# Altium integrated library Altium_WRIS-KSKE (rev20a).IntLib: 17 symbols
Pins are listed as number, name and electrical type; pins without a type are passive.

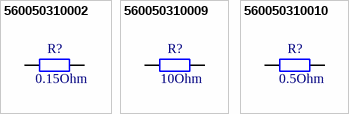
[diagram p0: symbols 560050310002 to 560050310010]

## 560050310002
designator R?, comment 0.15Ohm
WRIS-KSKE SMT Thick Film Resistor, size 0402, 0.15Ohm, 0.125W; Manufacturer: Wurth Elektronik; Manufacturer Part Number: 560050310002; Rated Current: 0.91A; Temperature Coefficient of Resistance: 300ppm/degC; Technical Reference: KE0402R150F108IAATH0000; Resistance Tolerance: +/-1%; ComponentLink1Description: Manufacturer; ComponentLink1URL: http://www.we-online.de; ComponentLink2Description: Datasheet; ComponentLink2URL: https://www.we-online.com/catalog/datasheet/560050310002.pdf; Published Date: May 2020; Rated Power: 0.125W; Resistance: 0.15Ohm; Height: 0.35mm; Operating Temperature: -55 to +155degC; Mounting Technology: SMT; Packaging: Tape and Reel; Size: 0402; Length: 1mm; Width: 0.5mm
footprint WRIS-KSKE_0402
pins: 1, 2

## 560050310009
designator R?, comment 10Ohm
WRIS-KSKE SMT Thick Film Resistor, size 0402, 10Ohm, 0.125W; Manufacturer: Wurth Elektronik; Manufacturer Part Number: 560050310009; Rated Current: 0.11A; Temperature Coefficient of Resistance: +/-100ppm/degC; Technical Reference: KE04020100F108KAATH0000; Resistance Tolerance: +/-1%; ComponentLink1Description: Manufacturer; ComponentLink1URL: http://www.we-online.de; ComponentLink2Description: Datasheet; ComponentLink2URL: https://www.we-online.com/catalog/datasheet/560050310009.pdf; Published Date: May 2020; Rated Power: 0.125W; Resistance: 10Ohm; Height: 0.35mm; Operating Temperature: -55 to +155degC; Mounting Technology: SMT; Packaging: Tape and Reel; Size: 0402; Length: 1mm; Width: 0.5mm
footprint WRIS-KSKE_0402
pins: 1, 2

## 560050310010
designator R?, comment 0.5Ohm
WRIS-KSKE SMT Thick Film Resistor, size 0402, 0.5Ohm, 0.125W; Manufacturer: Wurth Elektronik; Manufacturer Part Number: 560050310010; Rated Current: 0.5A; Temperature Coefficient of Resistance: 200ppm/degC; Technical Reference: KE0402R500F108HAATH0000; Resistance Tolerance: +/-1%; ComponentLink1Description: Manufacturer; ComponentLink1URL: http://www.we-online.de; ComponentLink2Description: Datasheet; ComponentLink2URL: https://www.we-online.com/catalog/datasheet/560050310010.pdf; Published Date: May 2020; Rated Power: 0.125W; Resistance: 0.5Ohm; Height: 0.35mm; Operating Temperature: -55 to +155degC; Mounting Technology: SMT; Packaging: Tape and Reel; Size: 0402; Length: 1mm; Width: 0.5mm
footprint WRIS-KSKE_0402
pins: 1, 2


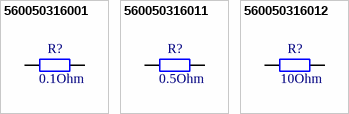
[diagram p1: symbols 560050316001 to 560050316012]

## 560050316001
designator R?, comment 0.1Ohm
WRIS-KSKE SMT Thick Film Resistor, size 0603, 0.1Ohm, 0.25W; Manufacturer: Wurth Elektronik; Manufacturer Part Number: 560050316001; Rated Current: 1.58A; Temperature Coefficient of Resistance: 250ppm/degC; Technical Reference: KE0603R100F104LAATP0000; Resistance Tolerance: +/-1%; ComponentLink1Description: Manufacturer; ComponentLink1URL: http://www.we-online.de; ComponentLink2Description: Datasheet; ComponentLink2URL: https://www.we-online.com/catalog/datasheet/560050316001.pdf; Published Date: May 2020; Rated Power: 0.25W; Resistance: 0.1Ohm; Height: 0.45mm; Operating Temperature: -55 to +155degC; Mounting Technology: SMT; Packaging: Tape and Reel; Size: 0603; Length: 1.6mm; Width: 0.8mm
footprint WRIS-KSKE_0603
pins: 1, 2

## 560050316011
designator R?, comment 0.5Ohm
WRIS-KSKE SMT Thick Film Resistor, size 0603, 0.5Ohm, 0.25W; Manufacturer: Wurth Elektronik; Manufacturer Part Number: 560050316011; Rated Current: 0.7A; Temperature Coefficient of Resistance: +/-100ppm/degC; Technical Reference: KE0603R500F104KAATP0000; Resistance Tolerance: +/-1%; ComponentLink1Description: Manufacturer; ComponentLink1URL: http://www.we-online.de; ComponentLink2Description: Datasheet; ComponentLink2URL: https://www.we-online.com/catalog/datasheet/560050316011.pdf; Published Date: May 2020; Rated Power: 0.25W; Resistance: 0.5Ohm; Height: 0.45mm; Operating Temperature: -55 to +155degC; Mounting Technology: SMT; Packaging: Tape and Reel; Size: 0603; Length: 1.6mm; Width: 0.8mm
footprint WRIS-KSKE_0603
pins: 1, 2

## 560050316012
designator R?, comment 10Ohm
WRIS-KSKE SMT Thick Film Resistor, size 0603, 10Ohm, 0.25W; Manufacturer: Wurth Elektronik; Manufacturer Part Number: 560050316012; Rated Current: 0.15A; Temperature Coefficient of Resistance: +/-100ppm/degC; Technical Reference: KE06030100F104KAATP0000; Resistance Tolerance: +/-1%; ComponentLink1Description: Manufacturer; ComponentLink1URL: http://www.we-online.de; ComponentLink2Description: Datasheet; ComponentLink2URL: https://www.we-online.com/catalog/datasheet/560050316012.pdf; Published Date: May 2020; Rated Power: 0.25W; Resistance: 10Ohm; Height: 0.45mm; Operating Temperature: -55 to +155degC; Mounting Technology: SMT; Packaging: Tape and Reel; Size: 0603; Length: 1.6mm; Width: 0.8mm
footprint WRIS-KSKE_0603
pins: 1, 2


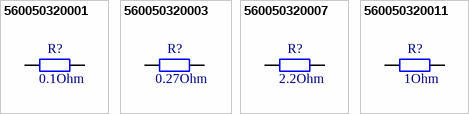
[diagram p2: symbols 560050320001 to 560050320011]

## 560050320001
designator R?, comment 0.1Ohm
WRIS-KSKE SMT Thick Film Resistor, size 0805, 0.1Ohm, 0.33W; Manufacturer: Wurth Elektronik; Manufacturer Part Number: 560050320001; Rated Current: 1.81A; Temperature Coefficient of Resistance: 250ppm/degC; Technical Reference: KE0805R100F103LAATP0000; Resistance Tolerance: +/-1%; ComponentLink1Description: Manufacturer; ComponentLink1URL: http://www.we-online.de; ComponentLink2Description: Datasheet; ComponentLink2URL: https://www.we-online.com/catalog/datasheet/560050320001.pdf; Published Date: May 2020; Rated Power: 0.33W; Resistance: 0.1Ohm; Height: 0.6mm; Operating Temperature: -55 to +155degC; Mounting Technology: SMT; Packaging: Tape and Reel; Size: 0805; Length: 2mm; Width: 1.25mm
footprint WRIS-KSKE_0805
pins: 1, 2

## 560050320003
designator R?, comment 0.27Ohm
WRIS-KSKE SMT Thick Film Resistor, size 0805, 0.27Ohm, 0.33W; Manufacturer: Wurth Elektronik; Manufacturer Part Number: 560050320003; Rated Current: 1.1A; Temperature Coefficient of Resistance: 200ppm/degC; Technical Reference: KE0805R270F103HAATP0000; Resistance Tolerance: +/-1%; ComponentLink1Description: Manufacturer; ComponentLink1URL: http://www.we-online.de; ComponentLink2Description: Datasheet; ComponentLink2URL: https://www.we-online.com/catalog/datasheet/560050320003.pdf; Published Date: May 2020; Rated Power: 0.33W; Resistance: 0.27Ohm; Height: 0.6mm; Operating Temperature: -55 to +155degC; Mounting Technology: SMT; Packaging: Tape and Reel; Size: 0805; Length: 2mm; Width: 1.25mm
footprint WRIS-KSKE_0805
pins: 1, 2

## 560050320007
designator R?, comment 2.2Ohm
WRIS-KSKE SMT Thick Film Resistor, size 0805, 2.2Ohm, 0.33W; Manufacturer: Wurth Elektronik; Manufacturer Part Number: 560050320007; Rated Current: 0.38A; Temperature Coefficient of Resistance: +/-100ppm/degC; Technical Reference: KE08052R20F103KAATP0000; Resistance Tolerance: +/-1%; ComponentLink1Description: Manufacturer; ComponentLink1URL: http://www.we-online.de; ComponentLink2Description: Datasheet; ComponentLink2URL: https://www.we-online.com/catalog/datasheet/560050320007.pdf; Published Date: May 2020; Rated Power: 0.33W; Resistance: 2.2Ohm; Height: 0.6mm; Operating Temperature: -55 to +155degC; Mounting Technology: SMT; Packaging: Tape and Reel; Size: 0805; Length: 2mm; Width: 1.25mm
footprint WRIS-KSKE_0805
pins: 1, 2

## 560050320011
designator R?, comment 1Ohm
WRIS-KSKE SMT Thick Film Resistor, size 0805, 1Ohm, 0.33W; Manufacturer: Wurth Elektronik; Manufacturer Part Number: 560050320011; Rated Current: 0.57A; Temperature Coefficient of Resistance: +/-100ppm/degC; Technical Reference: KE08051R00F103KAATP0000; Resistance Tolerance: +/-1%; ComponentLink1Description: Manufacturer; ComponentLink1URL: http://www.we-online.de; ComponentLink2Description: Datasheet; ComponentLink2URL: https://www.we-online.com/catalog/datasheet/560050320011.pdf; Published Date: May 2020; Rated Power: 0.33W; Resistance: 1Ohm; Height: 0.6mm; Operating Temperature: -55 to +155degC; Mounting Technology: SMT; Packaging: Tape and Reel; Size: 0805; Length: 2mm; Width: 1.25mm
footprint WRIS-KSKE_0805
pins: 1, 2


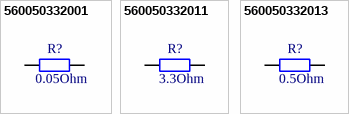
[diagram p3: symbols 560050332001 to 560050332013]

## 560050332001
designator R?, comment 0.05Ohm
WRIS-KSKE SMT Thick Film Resistor, size 1206, 0.05Ohm, 0.5W; Manufacturer: Wurth Elektronik; Manufacturer Part Number: 560050332001; Rated Current: 3.16A; Temperature Coefficient of Resistance: 250ppm/degC; Technical Reference: KE1206R050F102LAATP0000; Resistance Tolerance: +/-1%; ComponentLink1Description: Manufacturer; ComponentLink1URL: http://www.we-online.de; ComponentLink2Description: Datasheet; ComponentLink2URL: https://www.we-online.com/catalog/datasheet/560050332001.pdf; Published Date: May 2020; Rated Power: 0.5W; Resistance: 0.05Ohm; Height: 0.6mm; Operating Temperature: -55 to +155degC; Mounting Technology: SMT; Packaging: Tape and Reel; Size: 1206; Length: 3.1mm; Width: 1.6mm
footprint WRIS-KSKE_1206
pins: 1, 2

## 560050332011
designator R?, comment 3.3Ohm
WRIS-KSKE SMT Thick Film Resistor, size 1206, 3.3Ohm, 0.5W; Manufacturer: Wurth Elektronik; Manufacturer Part Number: 560050332011; Rated Current: 0.38A; Temperature Coefficient of Resistance: +/-100ppm/degC; Technical Reference: KE12063R30F102KAATP0000; Resistance Tolerance: +/-1%; ComponentLink1Description: Manufacturer; ComponentLink1URL: http://www.we-online.de; ComponentLink2Description: Datasheet; ComponentLink2URL: https://www.we-online.com/catalog/datasheet/560050332011.pdf; Published Date: May 2020; Rated Power: 0.5W; Resistance: 3.3Ohm; Height: 0.6mm; Operating Temperature: -55 to +155degC; Mounting Technology: SMT; Packaging: Tape and Reel; Size: 1206; Length: 3.1mm; Width: 1.6mm
footprint WRIS-KSKE_1206
pins: 1, 2

## 560050332013
designator R?, comment 0.5Ohm
WRIS-KSKE SMT Thick Film Resistor, size 1206, 0.5Ohm, 0.5W; Manufacturer: Wurth Elektronik; Manufacturer Part Number: 560050332013; Rated Current: 1A; Temperature Coefficient of Resistance: +/-100ppm/degC; Technical Reference: KE1206R500F102KAATP0000; Resistance Tolerance: +/-1%; ComponentLink1Description: Manufacturer; ComponentLink1URL: http://www.we-online.de; ComponentLink2Description: Datasheet; ComponentLink2URL: https://www.we-online.com/catalog/datasheet/560050332013.pdf; Published Date: May 2020; Rated Power: 0.5W; Resistance: 0.5Ohm; Height: 0.6mm; Operating Temperature: -55 to +155degC; Mounting Technology: SMT; Packaging: Tape and Reel; Size: 1206; Length: 3.1mm; Width: 1.6mm
footprint WRIS-KSKE_1206
pins: 1, 2


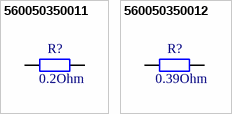
[diagram p4: symbols 560050350011 to 560050350012]

## 560050350011
designator R?, comment 0.2Ohm
WRIS-KSKE SMT Thick Film Resistor, size 2010, 0.2Ohm, 0.75W; Manufacturer: Wurth Elektronik; Manufacturer Part Number: 560050350011; Rated Current: 1.93A; Temperature Coefficient of Resistance: 200ppm/degC; Technical Reference: KE2010R200F304HAATE0000; Resistance Tolerance: +/-1%; ComponentLink1Description: Manufacturer; ComponentLink1URL: http://www.we-online.de; ComponentLink2Description: Datasheet; ComponentLink2URL: https://www.we-online.com/catalog/datasheet/560050350011.pdf; Published Date: May 2020; Rated Power: 0.75W; Resistance: 0.2Ohm; Height: 0.6mm; Operating Temperature: -55 to +155degC; Mounting Technology: SMT; Packaging: Tape and Reel; Size: 2010; Length: 5mm; Width: 2.5mm
footprint WRIS-KSKE_2010
pins: 1, 2

## 560050350012
designator R?, comment 0.39Ohm
WRIS-KSKE SMT Thick Film Resistor, size 2010, 0.39Ohm, 0.75W; Manufacturer: Wurth Elektronik; Manufacturer Part Number: 560050350012; Rated Current: 1.38A; Temperature Coefficient of Resistance: 200ppm/degC; Technical Reference: KE2010R390F304HAATE0000; Resistance Tolerance: +/-1%; ComponentLink1Description: Manufacturer; ComponentLink1URL: http://www.we-online.de; ComponentLink2Description: Datasheet; ComponentLink2URL: https://www.we-online.com/catalog/datasheet/560050350012.pdf; Published Date: May 2020; Rated Power: 0.75W; Resistance: 0.39Ohm; Height: 0.6mm; Operating Temperature: -55 to +155degC; Mounting Technology: SMT; Packaging: Tape and Reel; Size: 2010; Length: 5mm; Width: 2.5mm
footprint WRIS-KSKE_2010
pins: 1, 2


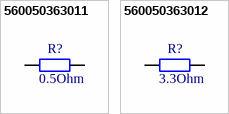
[diagram p5: symbols 560050363011 to 560050363012]

## 560050363011
designator R?, comment 0.5Ohm
WRIS-KSKE SMT Thick Film Resistor, size 2512, 0.5Ohm, 1W; Manufacturer: Wurth Elektronik; Manufacturer Part Number: 560050363011; Rated Current: 1.41A; Temperature Coefficient of Resistance: +/-100ppm/degC; Technical Reference: KE2512R500F101KAATE0000; Resistance Tolerance: +/-1%; ComponentLink1Description: Manufacturer; ComponentLink1URL: http://www.we-online.de; ComponentLink2Description: Datasheet; ComponentLink2URL: https://www.we-online.com/catalog/datasheet/560050363011.pdf; Published Date: May 2020; Rated Power: 1W; Resistance: 0.5Ohm; Height: 0.6mm; Operating Temperature: -55 to +155degC; Mounting Technology: SMT; Packaging: Tape and Reel; Size: 2512; Length: 6.3mm; Width: 3.2mm
footprint WRIS-KSKE_2512
pins: 1, 2

## 560050363012
designator R?, comment 3.3Ohm
WRIS-KSKE SMT Thick Film Resistor, size 2512, 3.3Ohm, 1W; Manufacturer: Wurth Elektronik; Manufacturer Part Number: 560050363012; Rated Current: 0.55A; Temperature Coefficient of Resistance: +/-100ppm/degC; Technical Reference: KE25123R30F101KAATE0000; Resistance Tolerance: +/-1%; ComponentLink1Description: Manufacturer; ComponentLink1URL: http://www.we-online.de; ComponentLink2Description: Datasheet; ComponentLink2URL: https://www.we-online.com/catalog/datasheet/560050363012.pdf; Published Date: May 2020; Rated Power: 1W; Resistance: 3.3Ohm; Height: 0.6mm; Operating Temperature: -55 to +155degC; Mounting Technology: SMT; Packaging: Tape and Reel; Size: 2512; Length: 6.3mm; Width: 3.2mm
footprint WRIS-KSKE_2512
pins: 1, 2